# Altium schematic symbol library 662005013322.SchLib: 1 symbol
Pins are listed as number, name and electrical type; pins without a type are passive.

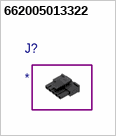
[diagram p0: symbol 662005013322]

## 662005013322
designator J?